# Altium schematic symbol library BFR360F.Schlib: 1 symbol
Pins are listed as number, name and electrical type; pins without a type are passive.

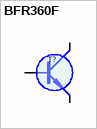
[diagram p0: symbol BFR360F]

## BFR360F
designator T?
TSFP        36V 35mA 14GHz 0.32p NF 1db
pins: 1 B, 2 E (oe), 3 C (oc)
1 alternate drawing of the same symbol